# EAGLE library part ESP8266 (library Ma-ESP8285)
ESP8266 Microcontroller with wifi and by Espressif
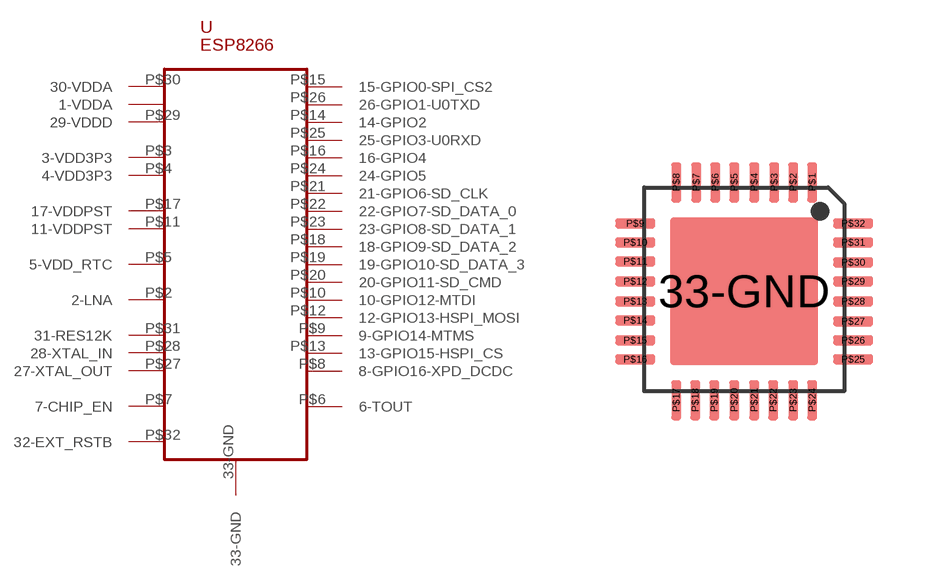
[diagram p0: symbol with the pads of QFN-32; footprint QFN-32]

Designator prefix -

## ESP8266  [QFN-32]
33-GND  33-GND  sup
P$1  1-VDDA  pwr
P$2  2-LNA  out
P$3  3-VDD3P3  pwr
P$4  4-VDD3P3  pwr
P$5  5-VDD_RTC  nc
P$6  6-TOUT
P$7  7-CHIP_EN
P$8  8-GPIO16-XPD_DCDC
P$9  9-GPIO14-MTMS
P$10  10-GPIO12-MTDI
P$11  11-VDDPST  pwr
P$12  12-GPIO13-HSPI_MOSI
P$13  13-GPIO15-HSPI_CS
P$14  14-GPIO2
P$15  15-GPIO0-SPI_CS2
P$16  16-GPIO4
P$17  17-VDDPST  pwr
P$18  18-GPIO9-SD_DATA_2
P$19  19-GPIO10-SD_DATA_3
P$20  20-GPIO11-SD_CMD
P$21  21-GPIO6-SD_CLK
P$22  22-GPIO7-SD_DATA_0
P$23  23-GPIO8-SD_DATA_1
P$24  24-GPIO5
P$25  25-GPIO3-U0RXD
P$26  26-GPIO1-U0TXD
P$27  27-XTAL_OUT
P$28  28-XTAL_IN
P$29  29-VDDD  pwr
P$30  30-VDDA  pwr
P$31  31-RES12K
P$32  32-EXT_RSTB

## Footprint QFN-32 (pad centres in mm)
smd 3.7 x 3.7: 33-GND 0,0
smd 0.25 x 1: P$1 1.7,2.725; P$2 1.225,2.725; P$3 0.75,2.725; P$4 0.25,2.725; P$5 -0.25,2.725; P$6 -0.725,2.725; P$7 -1.2,2.725; P$8 -1.7,2.725; P$17 -1.7,-2.725; P$18 -1.225,-2.725; P$19 -0.75,-2.725; P$20 -0.25,-2.725; P$21 0.25,-2.725; P$22 0.725,-2.725; P$23 1.225,-2.725; P$24 1.7,-2.725
smd 1 x 0.25: P$9 -2.725,1.7; P$10 -2.725,1.225; P$11 -2.725,0.75; P$12 -2.725,0.25; P$13 -2.725,-0.25; P$14 -2.725,-0.725; P$15 -2.725,-1.225; P$16 -2.725,-1.7; P$25 2.725,-1.7; P$26 2.725,-1.225; P$27 2.725,-0.75; P$28 2.725,-0.25; P$29 2.725,0.25; P$30 2.725,0.725; P$31 2.725,1.225; P$32 2.725,1.7